# EAGLE library part ESP32S-V1.1 (library FansElectronics-Modul)
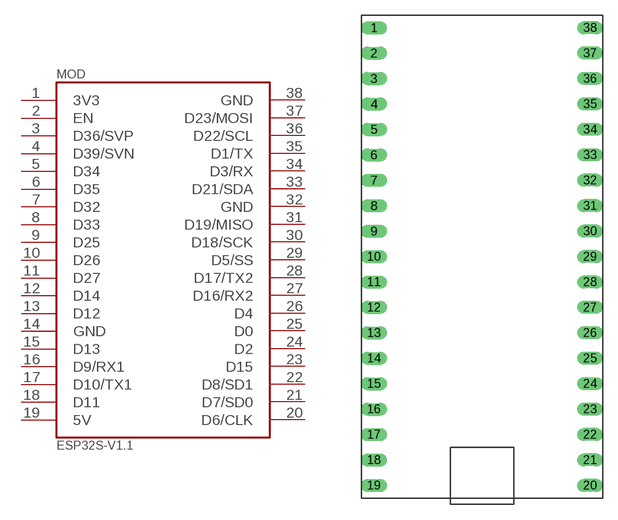
[diagram p40: symbol with the pads of ESP32S-V1.1; footprint ESP32S-V1.1]

Designator prefix MOD

## ESP32S-V1.1  [ESP32S-V1.1]
1  3V3  pwr
2  EN
3  D36/SVP
4  D39/SVN
5  D34
6  D35
7  D32
8  D33
9  D25
10  D26
11  D27
12  D14
13  D12
14  GND  pwr
15  D13
16  D9/RX1
17  D10/TX1
18  D11
19  5V  pwr
20  D6/CLK
21  D7/SD0
22  D8/SD1
23  D15
24  D2
25  D0
26  D4
27  D16/RX2
28  D17/TX2
29  D5/SS
30  D18/SCK
31  D19/MISO
32  GND  pwr
33  D21/SDA
34  D3/RX
35  D1/TX
36  D22/SCL
37  D23/MOSI
38  GND  pwr

## Footprint ESP32S-V1.1 (pad centres in mm)
drill 0.8 long: 1 -10.16,19.05; 2 -10.16,16.51; 3 -10.16,13.97; 4 -10.16,11.43; 5 -10.16,8.89; 6 -10.16,6.35; 7 -10.16,3.81; 8 -10.16,1.27; 9 -10.16,-1.27; 10 -10.16,-3.81; 11 -10.16,-6.35; 12 -10.16,-8.89; 13 -10.16,-11.43; 14 -10.16,-13.97; 15 -10.16,-16.51; 16 -10.16,-19.05; 17 -10.16,-21.59; 18 -10.16,-24.13; 19 -10.16,-26.67; 20 11.43,-26.67; 21 11.43,-24.13; 22 11.43,-21.59; 23 11.43,-19.05; 24 11.43,-16.51; 25 11.43,-13.97; 26 11.43,-11.43; 27 11.43,-8.89; 28 11.43,-6.35; 29 11.43,-3.81; 30 11.43,-1.27; 31 11.43,1.27; 32 11.43,3.81; 33 11.43,6.35; 34 11.43,8.89; 35 11.43,11.43; 36 11.43,13.97; 37 11.43,16.51; 38 11.43,19.05